# EAGLE library part ESP32-C6-WROOM-1U-N8 (library ESP32-C6-WROOM-1U-N8)
Multiprotocol Modules ESP32-C6 based module, supports Wi-Fi 6 in 2.4 GHz band, Bluetooth 5, Zigbee 3.0 and Thread Source: Datasheet <https://www.espressif.com/sites/default/files/documentation/esp32-c6-wroom-1_wroom-1u_datasheet_en.pdf>
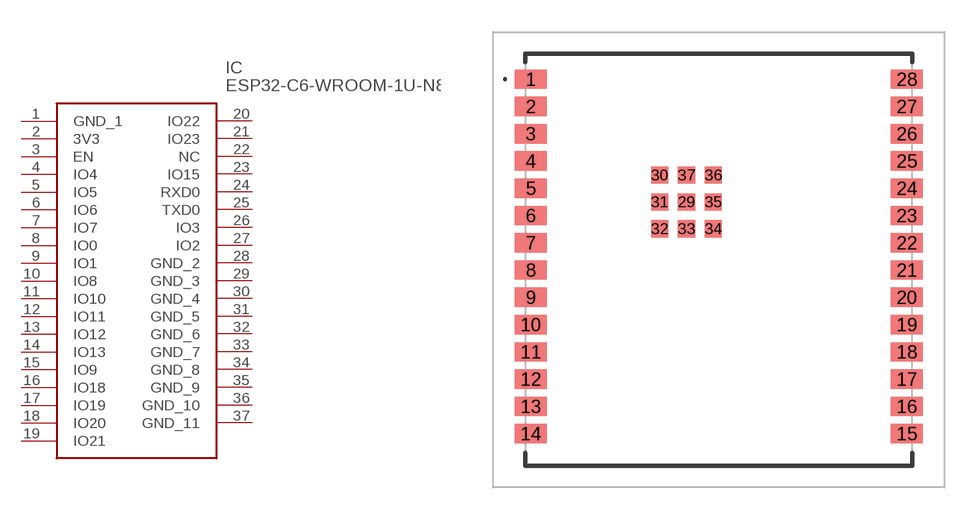
[diagram p0: symbol with the pads of ESP32C6WROOM1UN8; footprint ESP32C6WROOM1UN8]

Designator prefix IC

## ESP32-C6-WROOM-1U-N8 (Description: Multiprotocol Modules ESP32-C6 based module, supports Wi-Fi 6 in 2.4 GHz band, Bluetooth 5, Zigbee 3.0 and Thread; Height: 3.35mm; Manufacturer_Name: Espressif Systems; Manufacturer_Part_Number: ESP32-C6-WROOM-1U-N8; Mouser_Part_Number: 356-ESP32C6WROOM1UN8; Mouser_Price-Stock: https://www.mouser.co.uk/ProductDetail/Espressif-Systems/ESP32-C6-WROOM-1U-N8?qs=1Kr7Jg1SGW%2FzPU4G%252ByMwkA%3D%3D)  [ESP32C6WROOM1UN8]
1  GND_1
2  3V3
3  EN
4  IO4
5  IO5
6  IO6
7  IO7
8  IO0
9  IO1
10  IO8
11  IO10
12  IO11
13  IO12
14  IO13
15  IO9
16  IO18
17  IO19
18  IO20
19  IO21
20  IO22
21  IO23
22  NC  nc
23  IO15
24  RXD0
25  TXD0
26  IO3
27  IO2
28  GND_2
29  GND_3
30  GND_4
31  GND_5
32  GND_6
33  GND_7
34  GND_8
35  GND_9
36  GND_10
37  GND_11

## Footprint ESP32C6WROOM1UN8 (pad centres in mm)
ESP32-C6-WROOM-1U-N8
smd 1.5 x 0.9: 1 -8.75,8.41; 2 -8.75,7.14; 3 -8.75,5.87; 4 -8.75,4.6; 5 -8.75,3.33; 6 -8.75,2.06; 7 -8.75,0.79; 8 -8.75,-0.48; 9 -8.75,-1.75; 10 -8.75,-3.02; 11 -8.75,-4.29; 12 -8.75,-5.56; 13 -8.75,-6.83; 14 -8.75,-8.1; 15 8.75,-8.1; 16 8.75,-6.83; 17 8.75,-5.56; 18 8.75,-4.29; 19 8.75,-3.02; 20 8.75,-1.75; 21 8.75,-0.48; 22 8.75,0.79; 23 8.75,2.06; 24 8.75,3.33; 25 8.75,4.6; 26 8.75,5.87; 27 8.75,7.14; 28 8.75,8.41
smd 0.8 x 0.8: 29 -1.505,2.69; 30 -2.755,3.94; 31 -2.755,2.69; 32 -2.755,1.44; 33 -1.505,1.44; 34 -0.255,1.44; 35 -0.255,2.69; 36 -0.255,3.94; 37 -1.505,3.94